# Altium schematic symbol library CAP 0.1uF 630V.Schlib: 1 symbol
Pins are listed as number, name and electrical type; pins without a type are passive.

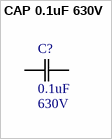
[diagram p0: symbol CAP 0.1uF 630V]

## CAP 0.1uF 630V
designator C?, comment Rating: 630V  (hidden comment: 0.1uF)
CAP CER 0.1uF 630V X7R 1210; Tolerance: 10%; Package: 1210; Temperature Coefficient: X7R; Operating Temperature: -55°C ~ 125°C; Value: 0.1uF
footprint 1210
pins: 1 C1, 2 C2